# Altium schematic symbol library Schlib2.SchLib: 6 symbols
Pins are listed as number, name and electrical type; pins without a type are passive.

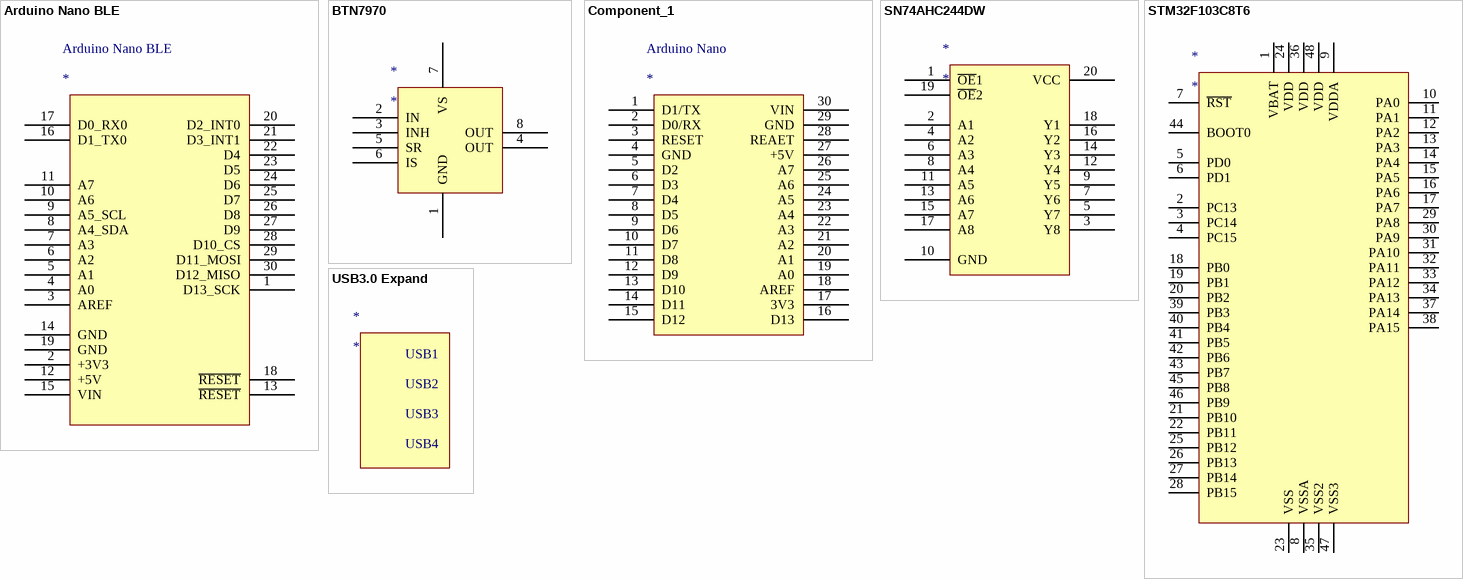
[diagram p0: symbols Arduino Nano BLE to USB3.0 Expand]

## Arduino Nano BLE
designator Arduino Nano BLE
pins: 1 D13_SCK, 2 +3V3, 3 AREF, 4 A0, 5 A1, 6 A2, 7 A3, 8 A4_SDA, 9 A5_SCL, 10 A6, 11 A7, 12 +5V, 13 ~{RESET}, 14 GND, 15 VIN, 16 D1_TX0, 17 D0_RX0, 18 ~{RESET}, 19 GND, 20 D2_INT0, 21 D3_INT1, 22 D4, 23 D5, 24 D6, 25 D7, 26 D8, 27 D9, 28 D10_CS, 29 D11_MOSI, 30 D12_MISO

## BTN7970
designator *
pins: 1 GND, 2 IN, 3 INH, 4 OUT, 5 SR, 6 IS, 7 VS, 8 OUT

## Component_1
designator Arduino Nano
pins: 1 D1/TX, 2 D0/RX, 3 RESET, 4 GND, 5 D2, 6 D3, 7 D4, 8 D5, 9 D6, 10 D7, 11 D8, 12 D9, 13 D10, 14 D11, 15 D12, 16 D13, 17 3V3, 18 AREF, 19 A0, 20 A1, 21 A2, 22 A3, 23 A4, 24 A5, 25 A6, 26 A7, 27 +5V, 28 REAET, 29 GND, 30 VIN

## SN74AHC244DW
designator *
pins: 1 ~{OE}1, 2 A1, 3 Y8, 4 A2, 5 Y7, 6 A3, 7 Y6, 8 A4, 9 Y5, 10 GND, 11 A5, 12 Y4, 13 A6, 14 Y3, 15 A7, 16 Y2, 17 A8, 18 Y1, 19 ~{OE}2, 20 VCC

## STM32F103C8T6
designator *
pins: 1 VBAT, 2 PC13, 3 PC14, 4 PC15, 5 PD0, 6 PD1, 7 ~{RST}, 8 VSSA, 9 VDDA, 10 PA0, 11 PA1, 12 PA2, 13 PA3, 14 PA4, 15 PA5, 16 PA6, 17 PA7, 18 PB0, 19 PB1, 20 PB2, 21 PB10, 22 PB11, 23 VSS, 24 VDD, 25 PB12, 26 PB13, 27 PB14, 28 PB15, 29 PA8, 30 PA9, 31 PA10, 32 PA11, 33 PA12, 34 PA13, 35 VSS2, 36 VDD, 37 PA14, 38 PA15, 39 PB3, 40 PB4, 41 PB5, 42 PB6, 43 PB7, 44 BOOT0, 45 PB8, 46 PB9, 47 VSS3, 48 VDD

## USB3.0 Expand
designator *
text: USB1; USB2; USB3; USB4